# EAGLE library part USB-MICRO (library SinclairScientific)
CONN USB MICRO B RECPT SMT R/A
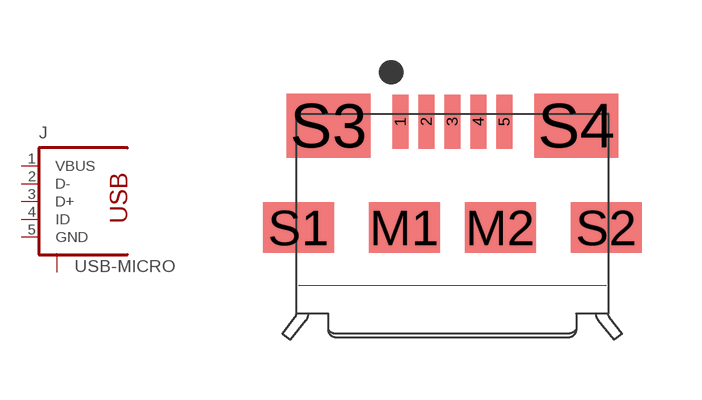
[diagram p3: symbol with the pads of USB-10118192-0001LF; footprint USB-10118192-0001LF]

Designator prefix J

## USB-MICRO (MFG: Amphenol; MPN: 10118192-0001LF; PN-DK: 609-4613-1-ND)  [USB-10118192-0001LF]
1  VBUS  pas
2  D-  pas
3  D+  pas
4  ID  pas
5  GND  pas
M1  S  pas
M2  S  pas
S1  S  pas
S2  S  pas
S3  S  pas
S4  S  pas

## Footprint USB-10118192-0001LF (pad centres in mm)
USB MICRO B FCI
smd 0.4 x 1.35: 1 -1.3,4.1; 2 -0.65,4.1; 3 0,4.1; 4 0.65,4.1; 5 1.3,4.1
smd 1.778 x 1.27: M1 -1.2,1.45; M2 1.2,1.45; S1 -3.85,1.45; S2 3.85,1.45
smd 2.1 x 1.6: S3 -3.1,4; S4 3.1,4